# EAGLE library part MAX1811 (library selfmade)
Maxim MAX1811 USB-Powered Li+ Charger Datenblatt: Link <http://datasheets.maxim-ic.com/en/ds/MAX1811.pdf>
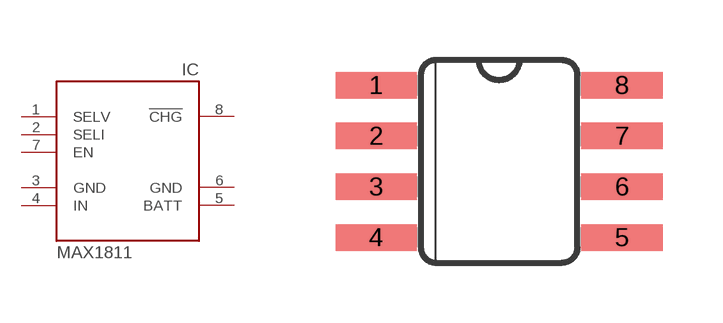
[diagram p8: symbol with the pads of 8-SO; footprint 8-SO]

Designator prefix IC

## MAX1811  [8-SO]
1  SELV  in
2  SELI  in
3  GND  sup
4  IN  sup
5  BATT  sup
6  GND  sup
7  EN  in
8  !CHG  out

## Footprint 8-SO (pad centres in mm)
smd 2.032 x 0.66: 1 -3.073,1.905; 2 -3.073,0.635; 3 -3.073,-0.635; 4 -3.073,-1.905; 5 3.073,-1.905; 6 3.073,-0.635; 7 3.073,0.635; 8 3.073,1.905